# Altium footprint library BGA153NP50A14X14_1300X1150X80B30RN.PcbLib: 1 footprints
Each footprint in its own frame and in the unit in brackets; x right, y up, seen from the top. Pads: shape width x height; smd on the part's side, far side on the other; paste and mask are expansions set on the pad; w line width, h text height; cw(c..) or ccw(c..) is an arc to the next point about the centre after c.
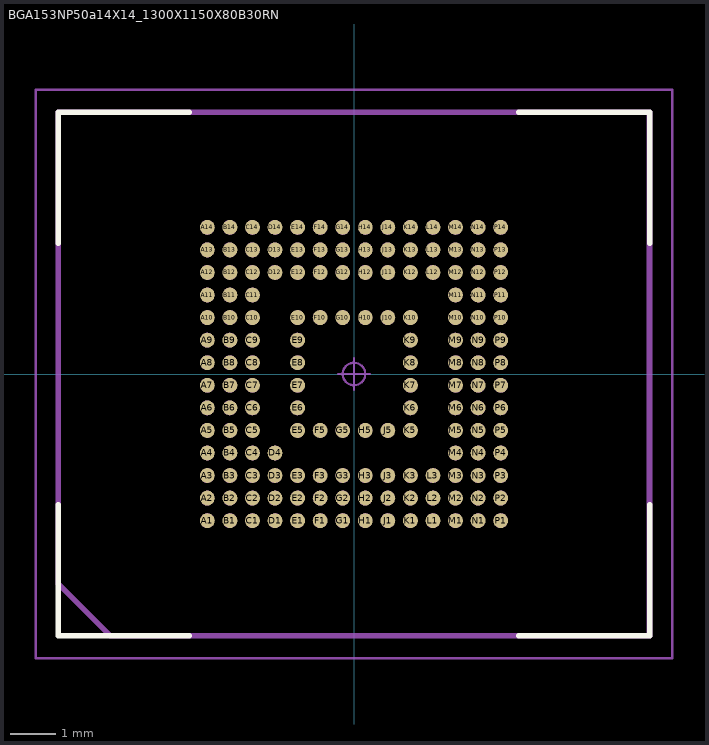
[diagram p0: the footprint, top view; thin cyan lines are the x and y axes]

## BGA153NP50a14X14_1300X1150X80B30RN [mm] "Ball Grid Array (BGA), 0.50 mm pitch, rect; 153 pin, 13.00 mm L X 11.50 mm W X 0.80 mm H Body (w/reversed pins)"
height 0.8
pads (153):
  round 0.33 smd mask+0.05: A1(-3.25,-3.25) A2(-3.25,-2.75) A3(-3.25,-2.25) A4(-3.25,-1.75) A5(-3.25,-1.25) A6(-3.25,-0.75) A7(-3.25,-0.25) A8(-3.25,0.25) A9(-3.25,0.75) A10(-3.25,1.25) A11(-3.25,1.75) A12(-3.25,2.25) A13(-3.25,2.75) A14(-3.25,3.25) B1(-2.75,-3.25) B2(-2.75,-2.75) B3(-2.75,-2.25) B4(-2.75,-1.75) B5(-2.75,-1.25) B6(-2.75,-0.75) B7(-2.75,-0.25) B8(-2.75,0.25) B9(-2.75,0.75) B10(-2.75,1.25) B11(-2.75,1.75) B12(-2.75,2.25) B13(-2.75,2.75) B14(-2.75,3.25) C1(-2.25,-3.25) C2(-2.25,-2.75) C3(-2.25,-2.25) C4(-2.25,-1.75) C5(-2.25,-1.25) C6(-2.25,-0.75) C7(-2.25,-0.25) C8(-2.25,0.25) C9(-2.25,0.75) C10(-2.25,1.25) C11(-2.25,1.75) C12(-2.25,2.25) C13(-2.25,2.75) C14(-2.25,3.25) D1(-1.75,-3.25) D2(-1.75,-2.75) D3(-1.75,-2.25) D4(-1.75,-1.75) D12(-1.75,2.25) D13(-1.75,2.75) D14(-1.75,3.25) E1(-1.25,-3.25) E2(-1.25,-2.75) E3(-1.25,-2.25) E5(-1.25,-1.25) E6(-1.25,-0.75) E7(-1.25,-0.25) E8(-1.25,0.25) E9(-1.25,0.75) E10(-1.25,1.25) E12(-1.25,2.25) E13(-1.25,2.75) E14(-1.25,3.25) F1(-0.75,-3.25) F2(-0.75,-2.75) F3(-0.75,-2.25) F5(-0.75,-1.25) F10(-0.75,1.25) F12(-0.75,2.25) F13(-0.75,2.75) F14(-0.75,3.25) G1(-0.25,-3.25) G2(-0.25,-2.75) G3(-0.25,-2.25) G5(-0.25,-1.25) G10(-0.25,1.25) G12(-0.25,2.25) G13(-0.25,2.75) G14(-0.25,3.25) H1(0.25,-3.25) H2(0.25,-2.75) H3(0.25,-2.25) H5(0.25,-1.25) H10(0.25,1.25) H12(0.25,2.25) H13(0.25,2.75) H14(0.25,3.25) J1(0.75,-3.25) J2(0.75,-2.75) J3(0.75,-2.25) J5(0.75,-1.25) J10(0.75,1.25) J11(0.75,2.25) J13(0.75,2.75) J14(0.75,3.25) K1(1.25,-3.25) K2(1.25,-2.75) K3(1.25,-2.25) K5(1.25,-1.25) K6(1.25,-0.75) K7(1.25,-0.25) K8(1.25,0.25) K9(1.25,0.75) K10(1.25,1.25) K12(1.25,2.25) K13(1.25,2.75) K14(1.25,3.25) L1(1.75,-3.25) L2(1.75,-2.75) L3(1.75,-2.25) L12(1.75,2.25) L13(1.75,2.75) L14(1.75,3.25) M1(2.25,-3.25) M2(2.25,-2.75) M3(2.25,-2.25) M4(2.25,-1.75) M5(2.25,-1.25) M6(2.25,-0.75) M7(2.25,-0.25) M8(2.25,0.25) M9(2.25,0.75) M10(2.25,1.25) M11(2.25,1.75) M12(2.25,2.25) M13(2.25,2.75) M14(2.25,3.25) N1(2.75,-3.25) N2(2.75,-2.75) N3(2.75,-2.25) N4(2.75,-1.75) N5(2.75,-1.25) N6(2.75,-0.75) N7(2.75,-0.25) N8(2.75,0.25) N9(2.75,0.75) N10(2.75,1.25) N11(2.75,1.75) N12(2.75,2.25) N13(2.75,2.75) N14(2.75,3.25) P1(3.25,-3.25) P2(3.25,-2.75) P3(3.25,-2.25) P4(3.25,-1.75) P5(3.25,-1.25) P6(3.25,-0.75) P7(3.25,-0.25) P8(3.25,0.25) P9(3.25,0.75) P10(3.25,1.25) P11(3.25,1.75) P12(3.25,2.25) P13(3.25,2.75) P14(3.25,3.25)
Top Overlay:
  lines w0.12: -6.55,-2.9 -6.55,-5.8 -3.65,-5.8 ; -6.55,2.9 -6.55,5.8 -3.65,5.8 ; 3.65,-5.8 6.55,-5.8 6.55,-2.9 ; 3.65,5.8 6.55,5.8 6.55,2.9
Mechanical 3:
  lines w0.12: -6.55,-4.65 -6.55,5.8 6.55,5.8 6.55,-5.8 -5.4,-5.8 -6.55,-4.65
Mechanical 5:
  drawing of 157 lines, arcs and shapes, not listed
Mechanical 7:
  circle w0.05: c0,0 r0.25
  lines w0.05: -0.35,0 0.35,0 ; 0,-0.35 0,0.35 ; -7.05,-6.3 -7.05,6.3 7.05,6.3 7.05,-6.3 -7.05,-6.3
Mechanical 9:
  text "'.Designator'" at -5.69,-0.398 h1.02
3D body "BGA153NP50_14X14_1300X1150X80B30R.STEP": height 0.8, standoff 0, extent -6.5,-5.75 6.5,5.75
3D body: height 0.8, standoff 0, extent -7.05,-6.3 7.05,6.3